# EAGLE library part IR2153 (library DSS0)
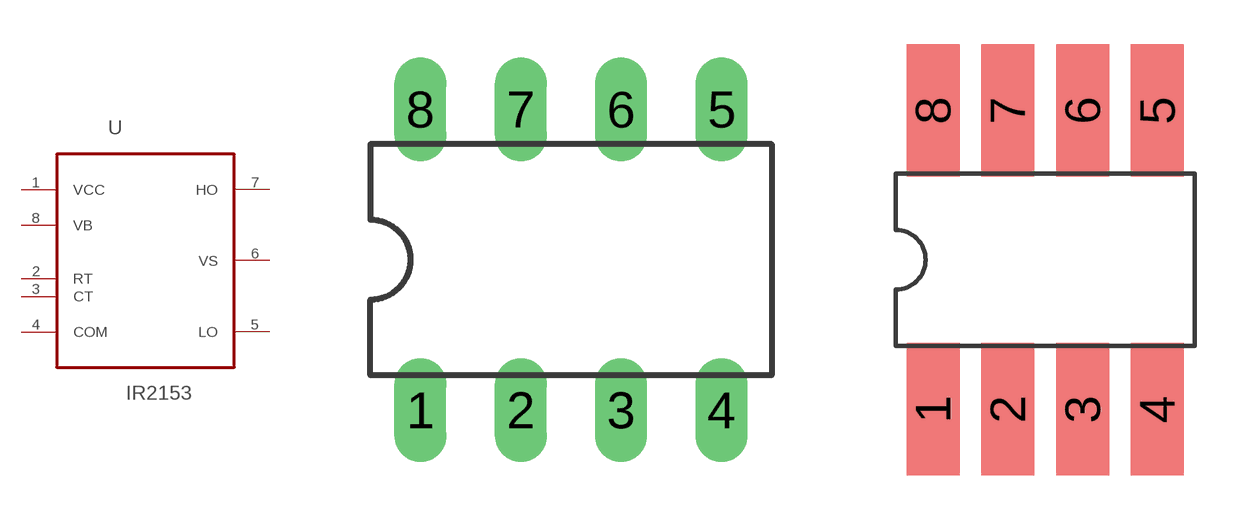
[diagram p5: symbol with the pads of DIL8; footprints DIL8, PDIL8]

Designator prefix -

## IR2153D  [DIL8]
1  VCC  pwr
2  RT  in
3  CT  in
4  COM  pas
5  LO  out
6  VS  pwr
7  HO  out
8  VB  pwr

## IR2153P  [PDIL8]
Pads as for DIL8

## IR2153S  [SO-08]
Pads as for DIL8

## Footprint DIL8 (pad centres in mm)
Dual In Line Package
drill 0.813 long: 1 -8.89,-3.81; 2 -6.35,-3.81; 3 -3.81,-3.81; 4 -1.27,-3.81; 5 -1.27,3.81; 6 -3.81,3.81; 7 -6.35,3.81; 8 -8.89,3.81

## Footprint PDIL8 (pad centres in mm)
Dual In Line Package
smd 1.8 x 4.5: 1 -3.81,-5.08; 2 -1.27,-5.08; 3 1.27,-5.08; 4 3.81,-5.08; 5 3.81,5.08; 6 1.27,5.08; 7 -1.27,5.08; 8 -3.81,5.08

## Footprint SO-08 (pad centres in mm)
Small Outline Narrow Plastic Gull Wing 150-mil body, package type SN
smd 0.6 x 2.2: 1 -1.905,-2.6; 2 -0.635,-2.6; 3 0.635,-2.6; 4 1.905,-2.6; 5 1.905,2.6; 6 0.635,2.6; 7 -0.635,2.6; 8 -1.905,2.6